# Altium integrated library Diodes - TVS.IntLib: 5379 symbols (part 21 of 122)
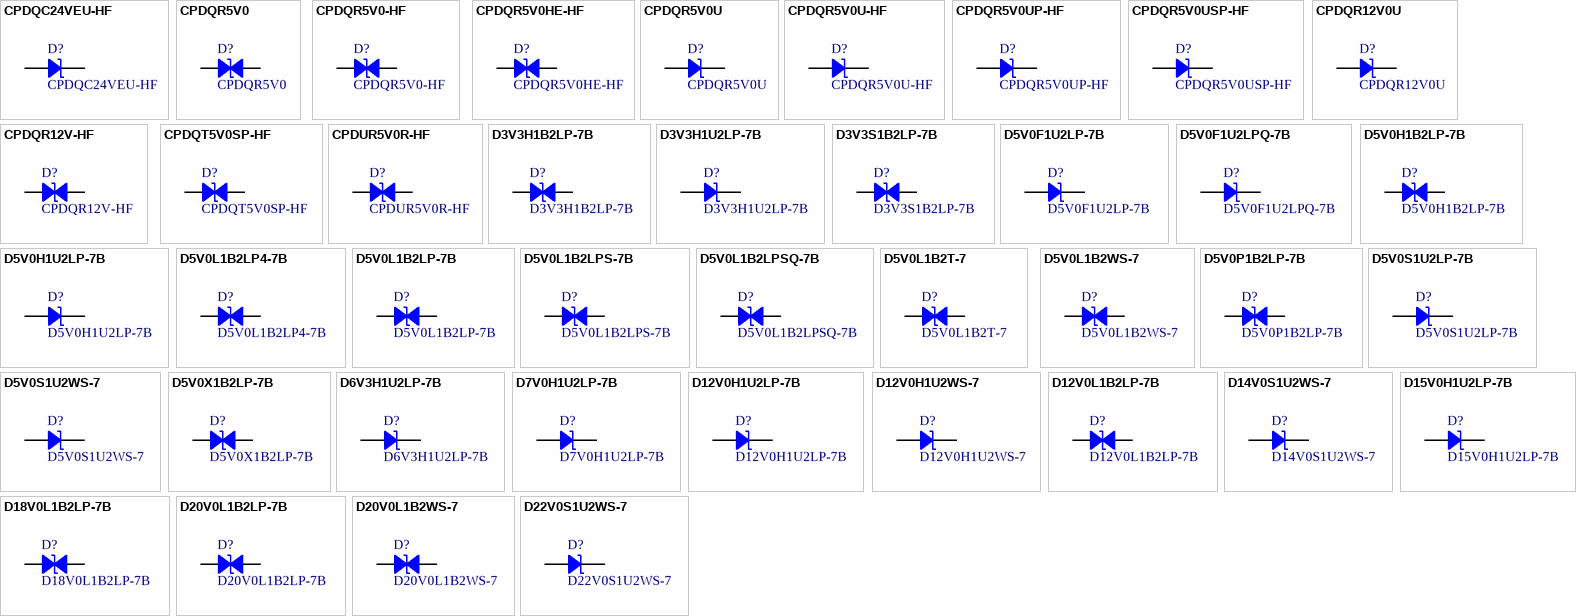
[diagram p154: symbols CPDQC24VEU-HF to D22V0S1U2WS-7]

## CPDQR5V0-HF
designator D?
TVS DIODE 5V 16V 0402/SOD923F; Manufacturer: Comchip Technology; Bidirectional Channels: 1; Capacitance @ Frequency: 15pF @ 1MHz; Current - Peak Pulse (10/1000µs): 5A (8/20µs); Power Line Protection: No; Power - Peak Pulse: 75W; Type: Zener; Voltage - Breakdown (Min): 5.1V; Part Number: CPDQR5V0-HF; Applications: General Purpose; ComponentLink1Description: Datasheet; ComponentLink1URL: http://www.comchiptech.com/admin/files/product/CPDQR5V0-HF RevG339730.pdf; ComponentLink2Description: DigiKey Link; ComponentLink2URL: http://digikey.com/product-detail/en/comchip-technology/CPDQR5V0-HF/641-2028-1-ND/9598511; Device Package: 0402 (1005 Metric); LastUpdated: 9/2/2020 1:28:49 AM; Lifecycle Status: Active; Minimum Order: 1; Mounting Type: Surface Mount; Package / Case: 0402 (1005 Metric); Packaging: TapeAndReel; PartId: 10489; Part Status: Active; Price: 0.11; Series: -; Supplier 1: DigiKey; Supplier Part Number 1: 641-2028-1-ND; Supplier Device Package: 0402/SOD-923F; Voltage - Clamping (Max) @ Ipp: 16V; Voltage - Reverse Standoff (Typ): 5V
footprint 0402
pins: 1, 2

## CPDQR5V0HE-HF
designator D?
TVS DIODE 5V 16V 0402/SOD923F; Manufacturer: Comchip Technology; Bidirectional Channels: 1; Capacitance @ Frequency: 15pF @ 1MHz; Current - Peak Pulse (10/1000µs): 8A (8/20µs); Power Line Protection: No; Power - Peak Pulse: 128W; Type: Zener; Voltage - Breakdown (Min): 5.5V; Voltage - Reverse Standoff (Typ): 5V (Max); Part Number: CPDQR5V0HE-HF; Applications: General Purpose; ComponentLink1Description: Datasheet; ComponentLink1URL: http://www.comchiptech.com/admin/files/product/CPDQR5V0HE-HF RevB812651.pdf; ComponentLink2Description: DigiKey Link; ComponentLink2URL: http://digikey.com/product-detail/en/comchip-technology/CPDQR5V0HE-HF/641-1749-1-ND/5400855; Device Package: 0402 (1006 Metric); LastUpdated: 9/2/2020 1:28:49 AM; Lifecycle Status: Active; Minimum Order: 1; Mounting Type: Surface Mount; Operating Temperature: -40°C ~ 125°C (TJ); Package / Case: 0402 (1006 Metric); Packaging: TapeAndReel; PartId: 10468; Part Status: Active; Price: 0.06; Series: -; Supplier 1: DigiKey; Supplier Part Number 1: 641-1749-1-ND; Supplier Device Package: 0402/SOD-923F; Voltage - Clamping (Max) @ Ipp: 16V
footprint 0402
pins: 1, 2

## CPDQR5V0U
designator D?
TVS DIODE 5V 12.5V 0402/SOD923F; Manufacturer: Comchip Technology; Capacitance @ Frequency: 90pF @ 1MHz; Current - Peak Pulse (10/1000µs): 16A (8/20µs); Power Line Protection: No; Power - Peak Pulse: 200W; Type: Zener; Unidirectional Channels: 1; Voltage - Breakdown (Min): 6V; Part Number: CPDQR5V0U; Applications: General Purpose; ComponentLink1Description: Datasheet; ComponentLink1URL: http://www.comchiptech.com/admin/files/product/CPDQR5V0U-HF RevF841589.pdf; ComponentLink2Description: DigiKey Link; ComponentLink2URL: http://digikey.com/product-detail/en/comchip-technology/CPDQR5V0U/641-1295-1-ND/1973574; Device Package: 0402 (1005 Metric); LastUpdated: 9/2/2020 1:28:45 AM; Lifecycle Status: Active; Minimum Order: 1; Mounting Type: Surface Mount; Package / Case: 0402 (1005 Metric); Packaging: TapeAndReel; PartId: 10403; Part Status: Active; Price: 0.11; Series: -; Supplier 1: DigiKey; Supplier Part Number 1: 641-1295-1-ND; Supplier Device Package: 0402/SOD-923F; Voltage - Clamping (Max) @ Ipp: 12.5V; Voltage - Reverse Standoff (Typ): 5V
footprint 0402
pins: 1, 2

## CPDQR5V0U-HF
designator D?
TVS DIODE 5V 12.5V 0402/SOD923F; Manufacturer: Comchip Technology; Capacitance @ Frequency: 90pF @ 1MHz; Current - Peak Pulse (10/1000µs): 16A (8/20µs); Power Line Protection: No; Power - Peak Pulse: 200W; Type: Zener; Unidirectional Channels: 1; Voltage - Breakdown (Min): 6V; Part Number: CPDQR5V0U-HF; Applications: General Purpose; ComponentLink1Description: Datasheet; ComponentLink1URL: http://www.comchiptech.com/admin/files/product/CPDQR5V0U-HF RevF841589.pdf; ComponentLink2Description: DigiKey Link; ComponentLink2URL: http://digikey.com/product-detail/en/comchip-technology/CPDQR5V0U-HF/641-2014-1-ND/9598500; Device Package: 0402 (1005 Metric); LastUpdated: 9/2/2020 1:28:45 AM; Lifecycle Status: Active; Minimum Order: 1; Mounting Type: Surface Mount; Package / Case: 0402 (1005 Metric); Packaging: TapeAndReel; PartId: 10391; Part Status: Active; Price: 0.11; Series: -; Supplier 1: DigiKey; Supplier Part Number 1: 641-2014-1-ND; Supplier Device Package: 0402/SOD-923F; Voltage - Clamping (Max) @ Ipp: 12.5V; Voltage - Reverse Standoff (Typ): 5V
footprint 0402
pins: 1, 2

## CPDQR5V0UP-HF
designator D?
TVS DIODE 5V 12.5V 0402/SOD923F; Manufacturer: Comchip Technology; Capacitance @ Frequency: 10pF @ 1MHz; Current - Peak Pulse (10/1000µs): 2A (8/20µs); Power Line Protection: No; Power - Peak Pulse: 25W; Type: Zener; Unidirectional Channels: 1; Voltage - Breakdown (Min): 6V; Voltage - Reverse Standoff (Typ): 5V (Max); Part Number: CPDQR5V0UP-HF; Applications: General Purpose; ComponentLink1Description: Datasheet; ComponentLink1URL: http://www.comchiptech.com/admin/files/product/CPDQR5V0UP-HF%20RevA692298.pdf; ComponentLink2Description: DigiKey Link; ComponentLink2URL: http://digikey.com/product-detail/en/comchip-technology/CPDQR5V0UP-HF/641-1470-1-ND/3672589; Device Package: 0402 (1005 Metric); LastUpdated: 9/2/2020 1:28:45 AM; Lifecycle Status: Active; Minimum Order: 1; Mounting Type: Surface Mount; Operating Temperature: -55°C ~ 125°C (TJ); Package / Case: 0402 (1005 Metric); Packaging: TapeAndReel; PartId: 10384; Part Status: Active; Price: 0.05; Series: -; Supplier 1: DigiKey; Supplier Part Number 1: 641-1470-1-ND; Supplier Device Package: 0402/SOD-923F; Voltage - Clamping (Max) @ Ipp: 12.5V
footprint 0402
pins: 1, 2

## CPDQR5V0USP-HF
designator D?
TVS DIODE 5V 20V 0402/SOD923F; Manufacturer: Comchip Technology; Capacitance @ Frequency: 0.6pF @ 1MHz; Current - Peak Pulse (10/1000µs): 2.5A (8/20µs); Power Line Protection: No; Power - Peak Pulse: 50W; Type: Zener; Unidirectional Channels: 1; Voltage - Breakdown (Min): 5.4V; Voltage - Reverse Standoff (Typ): 5V (Max); Part Number: CPDQR5V0USP-HF; Applications: General Purpose; ComponentLink1Description: Datasheet; ComponentLink1URL: http://www.comchiptech.com/admin/files/product/CPDQR5V0USP-HF RevB423247.pdf; ComponentLink2Description: DigiKey Link; ComponentLink2URL: http://digikey.com/product-detail/en/comchip-technology/CPDQR5V0USP-HF/641-1761-1-ND/5683894; Device Package: 0402 (1006 Metric); LastUpdated: 9/2/2020 1:28:45 AM; Lifecycle Status: Active; Minimum Order: 1; Mounting Type: Surface Mount; Operating Temperature: -55°C ~ 150°C (TJ); Package / Case: 0402 (1006 Metric); Packaging: TapeAndReel; PartId: 10377; Part Status: Active; Price: 0.06; Series: -; Supplier 1: DigiKey; Supplier Part Number 1: 641-1761-1-ND; Supplier Device Package: 0402/SOD-923F; Voltage - Clamping (Max) @ Ipp: 20V
footprint 0402
pins: 1, 2

## CPDQR12V0U
designator D?
TVS DIODE 12VWM 24VC 0402; Manufacturer: Comchip Technology; Capacitance @ Frequency: 60pF @ 1MHz; Current - Peak Pulse (10/1000µs): 5A (8/20µs); Power Line Protection: No; Power - Peak Pulse: 120W; Type: Zener; Unidirectional Channels: 1; Voltage - Breakdown (Min): 13.3V; Voltage - Clamping (Max) @ Ipp: 24V; Voltage - Reverse Standoff (Typ): 12V; Part Number: CPDQR12V0U; Applications: General Purpose; ComponentLink1Description: Datasheet; ComponentLink1URL: http://www.comchiptech.com/admin/files/product/CPDQR12V0U-HF RevB423442.pdf; ComponentLink2Description: DigiKey Link; ComponentLink2URL: http://digikey.com/product-detail/en/comchip-technology/CPDQR12V0U/641-1408-1-ND/2075772; Device Package: 0402 (1005 Metric); LastUpdated: 9/2/2020 1:28:45 AM; Lifecycle Status: Active; Minimum Order: 1; Mounting Type: Surface Mount; Package / Case: 0402 (1005 Metric); Packaging: TapeAndReel; PartId: 10374; Part Status: Active; Price: 0.07; Series: -; Supplier 1: DigiKey; Supplier Part Number 1: 641-1408-1-ND; Supplier Device Package: 0402/SOD-923F
footprint 0402
pins: 1, 2

## CPDQR12V-HF
designator D?
TVS DIODE 12V 25V 0402; Manufacturer: Comchip Technology; Bidirectional Channels: 1; Capacitance @ Frequency: 12pF @ 1MHz; Current - Peak Pulse (10/1000µs): 1A (8/20µs); Power Line Protection: No; Power - Peak Pulse: 25W; Type: Zener; Voltage - Breakdown (Min): 13V; Part Number: CPDQR12V-HF; Applications: General Purpose; ComponentLink1Description: Datasheet; ComponentLink1URL: http://www.comchiptech.com/admin/files/product/CPDQR12V-HF RevB390017.pdf; ComponentLink2Description: DigiKey Link; ComponentLink2URL: http://digikey.com/product-detail/en/comchip-technology/CPDQR12V-HF/641-2064-1-ND/10131650; Device Package: 0402 (1006 Metric); LastUpdated: 9/2/2020 1:28:49 AM; Lifecycle Status: Active; Minimum Order: 1; Mounting Type: Surface Mount; Package / Case: 0402 (1006 Metric); Packaging: TapeAndReel; PartId: 10490; Part Status: Active; Price: 0.09; Series: -; Supplier 1: DigiKey; Supplier Part Number 1: 641-2064-1-ND; Supplier Device Package: 0402 (1005 Metric); Voltage - Clamping (Max) @ Ipp: 25V; Voltage - Reverse Standoff (Typ): 12V
footprint 0402
pins: 1, 2

## CPDQT5V0SP-HF
designator D?
ESD DIODE 5VWM 12.9VC 0402 SOD-8; Manufacturer: Comchip Technology; Bidirectional Channels: 1; Capacitance @ Frequency: 0.5pF @ 1MHz; Current - Peak Pulse (10/1000µs): 1A (8/20µs); Power Line Protection: No; Type: Zener; Voltage - Breakdown (Min): 5.4V; Voltage - Clamping (Max) @ Ipp: 12.9V; Voltage - Reverse Standoff (Typ): 5V (Max); Part Number: CPDQT5V0SP-HF; Applications: General Purpose; ComponentLink1Description: Datasheet; ComponentLink1URL: http://www.comchiptech.com/admin/files/product/CPDQT5V0SP-HF%20RevC235622.pdf; ComponentLink2Description: DigiKey Link; ComponentLink2URL: http://digikey.com/product-detail/en/comchip-technology/CPDQT5V0SP-HF/641-2056-1-ND/10106907; Device Package: 0402 (1006 Metric); LastUpdated: 9/2/2020 1:28:49 AM; Lifecycle Status: Active; Minimum Order: 1; Mounting Type: Surface Mount; Operating Temperature: -55°C ~ 125°C (TJ); Package / Case: 0402 (1006 Metric); Packaging: TapeAndReel; PartId: 10477; Part Status: Active; Price: 0.08; Series: -; Supplier 1: DigiKey; Supplier Part Number 1: 641-2056-1-ND; Supplier Device Package: 0402/SOD-882
footprint 0402
pins: 1, 2

## CPDUR5V0R-HF
designator D?
TVS DIODE 5V 13V 0603/SOD523F; Manufacturer: Comchip Technology; Bidirectional Channels: 1; Capacitance @ Frequency: 20pF @ 1MHz; Current - Peak Pulse (10/1000µs): 12A (8/20µs); Power Line Protection: No; Type: Zener; Voltage - Breakdown (Min): 5.6V; Voltage - Reverse Standoff (Typ): 5V (Max); Part Number: CPDUR5V0R-HF; Applications: General Purpose; ComponentLink1Description: Datasheet; ComponentLink1URL: http://www.comchiptech.com/admin/files/product/CPDUR5V0R-HF-Rev B339379.pdf; ComponentLink2Description: DigiKey Link; ComponentLink2URL: http://digikey.com/product-detail/en/comchip-technology/CPDUR5V0R-HF/641-1526-1-ND/4835688; LastUpdated: 9/2/2020 1:28:25 AM; Lifecycle Status: Active; Minimum Order: 1; Mounting Type: Surface Mount; Operating Temperature: -40°C ~ 150°C (TJ); Package / Case: SC-79, SOD-523; Packaging: TapeAndReel; PartId: 9827; Part Status: Active; Price: 0.06; Series: -; Supplier 1: DigiKey; Supplier Part Number 1: 641-1526-1-ND; Supplier Device Package: 0603/SOD-523F; Voltage - Clamping (Max) @ Ipp: 13V
footprint SOD523F
pins: 1, 2

## D3V3H1B2LP-7B
designator D?
TVS DIODE 9.5VC 40A X1DFN1006-2; Manufacturer: Diodes Incorporated; Bidirectional Channels: 1; Capacitance @ Frequency: 100pF @ 1MHz; Current - Peak Pulse (10/1000µs): 40A (8/20µs); Power Line Protection: No; Power - Peak Pulse: 380W; Type: Zener; Voltage - Breakdown (Min): 3.8V; Voltage - Clamping (Max) @ Ipp: 9.5V; Voltage - Reverse Standoff (Typ): 3.3V (Max); Part Number: D3V3H1B2LP-7B; Applications: General Purpose; ComponentLink1Description: Datasheet; ComponentLink1URL: https://www.diodes.com/assets/Datasheets/D3V3H1B2LP.pdf; ComponentLink2Description: DigiKey Link; ComponentLink2URL: http://digikey.com/product-detail/en/diodes-incorporated/D3V3H1B2LP-7B/D3V3H1B2LP-7BDICT-ND/8545863; Device Package: 0402 (1006 Metric); LastUpdated: 9/2/2020 1:28:49 AM; Lifecycle Status: Active; Minimum Order: 1; Mounting Type: Surface Mount; Operating Temperature: -65°C ~ 150°C (TJ); Package / Case: 0402 (1006 Metric); Packaging: TapeAndReel; PartId: 10480; Part Status: Active; Price: 0.08; Series: -; Supplier 1: DigiKey; Supplier Part Number 1: D3V3H1B2LP-7BDICT-ND; Supplier Device Package: X1-DFN1006-2
footprint 0402
pins: 1, 2

## D3V3H1U2LP-7B
designator D?
TVS DIODE 3.3V 10V DFN1006-2; Manufacturer: Diodes Incorporated; Capacitance @ Frequency: 280pF @ 1MHz; Current - Peak Pulse (10/1000µs): 35A (8/20µs); Power Line Protection: No; Power - Peak Pulse: 350W; Type: Zener; Unidirectional Channels: 1; Voltage - Breakdown (Min): 4V; Voltage - Reverse Standoff (Typ): 3.3V (Max); Part Number: D3V3H1U2LP-7B; Applications: General Purpose; ComponentLink1Description: Datasheet; ComponentLink1URL: https://www.diodes.com/assets/Datasheets/D3V3H1U2LP.pdf; ComponentLink2Description: DigiKey Link; ComponentLink2URL: http://digikey.com/product-detail/en/diodes-incorporated/D3V3H1U2LP-7B/31-D3V3H1U2LP-7BCT-ND/11643297; LastUpdated: 8/30/2020 9:08:09 PM; Lifecycle Status: Active; Minimum Order: 1; Mounting Type: Surface Mount; Package / Case: 0402 (1006 Metric); Packaging: CutTape; PartId: 11495; Price: 0.38; Supplier 1: DigiKey; Supplier Part Number 1: 31-D3V3H1U2LP-7BCT-ND; Supplier Device Package: X1-DFN1006-2; Voltage - Clamping (Max) @ Ipp: 10V
footprint 0402
pins: 1, 2

## D3V3S1B2LP-7B
designator D?
GENERAL PROTECTION PP DFN1006-2; Manufacturer: Diodes Incorporated; Bidirectional Channels: 1; Capacitance @ Frequency: 118pF @ 1MHz; Current - Peak Pulse (10/1000µs): 50A (8/20µs); Power Line Protection: No; Power - Peak Pulse: 410W; Type: Zener; Voltage - Breakdown (Min): 3.8V; Voltage - Clamping (Max) @ Ipp: 9.5V; Voltage - Reverse Standoff (Typ): 3.3V (Max); Part Number: D3V3S1B2LP-7B; Applications: General Purpose; ComponentLink2Description: DigiKey Link; ComponentLink2URL: http://digikey.com/product-detail/en/diodes-incorporated/D3V3S1B2LP-7B/31-D3V3S1B2LP-7BCT-ND/10706931; Device Package: 0402 (1006 Metric); LastUpdated: 9/2/2020 1:28:48 AM; Lifecycle Status: Active; Minimum Order: 1; Mounting Type: Surface Mount; Operating Temperature: -55°C ~ 150°C (TJ); Package / Case: 0402 (1006 Metric); Packaging: Unknown; PartId: 10428; Part Status: Active; Price: 0.07; Series: -; Supplier 1: DigiKey; Supplier Part Number 1: 31-D3V3S1B2LP-7BCT-ND; Supplier Device Package: X1-DFN1006-2
footprint 0402
pins: 1, 2

## D5V0F1U2LP-7B
designator D?
TVS DIODE 5.5V 12V DFN1006-2; Manufacturer: Diodes Incorporated; Capacitance @ Frequency: 0.5pF @ 1MHz; Current - Peak Pulse (10/1000µs): 1.5A (8/20µs); Power Line Protection: No; Type: Zener; Unidirectional Channels: 1; Voltage - Breakdown (Min): 6V; Voltage - Reverse Standoff (Typ): 5.5V (Max); Part Number: D5V0F1U2LP-7B; Applications: Automotive, HDMI; ComponentLink1Description: Datasheet; ComponentLink1URL: https://www.diodes.com/assets/Datasheets/D5V0F1U2LP.pdf; ComponentLink2Description: DigiKey Link; ComponentLink2URL: http://digikey.com/product-detail/en/diodes-incorporated/D5V0F1U2LP-7B/D5V0F1U2LP-7BDICT-ND/4868984; Device Package: 0402 (1006 Metric); LastUpdated: 9/2/2020 1:28:45 AM; Lifecycle Status: Active; Minimum Order: 1; Mounting Type: Surface Mount; Operating Temperature: -65°C ~ 150°C (TJ); Package / Case: 0402 (1006 Metric); Packaging: TapeAndReel; PartId: 10398; Part Status: Active; Price: 0.08; Series: Automotive, AEC-Q101; Supplier 1: DigiKey; Supplier Part Number 1: D5V0F1U2LP-7BDICT-ND; Supplier Device Package: X1-DFN1006-2; Voltage - Clamping (Max) @ Ipp: 12V
footprint 0402
pins: 1, 2

## D5V0F1U2LPQ-7B
designator D?
DATALINE PROTECT PP X1-DFN1006-2; Manufacturer: Diodes Incorporated; Capacitance @ Frequency: 0.5pF @ 1MHz; Current - Peak Pulse (10/1000µs): 1.5A (8/20µs); Power Line Protection: No; Type: 0402 (1006 Metric); Unidirectional Channels: 1; Voltage - Breakdown (Min): 6V; Voltage - Clamping (Max) @ Ipp: 12V; Voltage - Reverse Standoff (Typ): 5.5V (Max); Part Number: D5V0F1U2LPQ-7B; Applications: Automotive; ComponentLink1Description: Datasheet; ComponentLink1URL: https://www.diodes.com/assets/Datasheets/D5V0F1U2LPQ.pdf; ComponentLink2Description: DigiKey Link; ComponentLink2URL: http://digikey.com/product-detail/en/diodes-incorporated/D5V0F1U2LPQ-7B/31-D5V0F1U2LPQ-7BCT-ND/10674222; Device Package: 0402 (1006 Metric); LastUpdated: 9/2/2020 1:28:45 AM; Lifecycle Status: Active; Minimum Order: 1; Mounting Type: Surface Mount; Operating Temperature: -65°C ~ 150°C (TJ); Package / Case: 0402 (1006 Metric); Packaging: TapeAndReel; PartId: 10364; Part Status: -65°C ~ 150°C (TJ); Price: 0.03; Series: Automotive, AEC-Q101; Supplier 1: DigiKey; Supplier Part Number 1: 31-D5V0F1U2LPQ-7BCT-ND; Supplier Device Package: X1-DFN1006-2
footprint 0402
pins: 1, 2

## D5V0H1B2LP-7B
designator D?
TVS DIODE 5.5V 12.5V DFN1006-2; Manufacturer: Diodes Incorporated; Bidirectional Channels: 1; Capacitance @ Frequency: 85pF @ 1MHz; Current - Peak Pulse (10/1000µs): 30A (8/20µs); Power Line Protection: No; Power - Peak Pulse: 375W; Type: Zener; Voltage - Breakdown (Min): 6V; Voltage - Reverse Standoff (Typ): 5.5V (Max); Part Number: D5V0H1B2LP-7B; Applications: General Purpose; ComponentLink1Description: Datasheet; ComponentLink1URL: https://www.diodes.com/assets/Datasheets/D5V0H1B2LP.pdf; ComponentLink2Description: DigiKey Link; ComponentLink2URL: http://digikey.com/product-detail/en/diodes-incorporated/D5V0H1B2LP-7B/D5V0H1B2LP-7BDICT-ND/7708829; Device Package: 0402 (1006 Metric); LastUpdated: 9/2/2020 1:28:48 AM; Lifecycle Status: Active; Minimum Order: 1; Mounting Type: Surface Mount; Operating Temperature: -65°C ~ 150°C (TJ); Package / Case: 0402 (1006 Metric); Packaging: TapeAndReel; PartId: 10418; Part Status: Active; Price: 0.03; Series: -; Supplier 1: DigiKey; Supplier Part Number 1: D5V0H1B2LP-7BDICT-ND; Supplier Device Package: X1-DFN1006-2; Voltage - Clamping (Max) @ Ipp: 12.5V
footprint 0402
pins: 1, 2

## D5V0H1U2LP-7B
designator D?
TVS DIODE 14VC 30A X1DFN1006-2; Manufacturer: Diodes Incorporated; Capacitance @ Frequency: 190pF @ 1MHz; Current - Peak Pulse (10/1000µs): 30A (8/20µs); Power Line Protection: No; Power - Peak Pulse: 420W; Type: Zener; Unidirectional Channels: 1; Voltage - Breakdown (Min): 6.2V; Voltage - Clamping (Max) @ Ipp: 14V; Voltage - Reverse Standoff (Typ): 5.5V (Max); Part Number: D5V0H1U2LP-7B; Applications: General Purpose; ComponentLink1Description: Datasheet; ComponentLink1URL: https://www.diodes.com/assets/Datasheets/D5V0H1U2LP.pdf; ComponentLink2Description: DigiKey Link; ComponentLink2URL: http://digikey.com/product-detail/en/diodes-incorporated/D5V0H1U2LP-7B/D5V0H1U2LP-7BDICT-ND/8545865; Device Package: 0402 (1006 Metric); LastUpdated: 9/2/2020 1:28:45 AM; Lifecycle Status: Active; Minimum Order: 1; Mounting Type: Surface Mount; Operating Temperature: -65°C ~ 150°C (TJ); Package / Case: 0402 (1006 Metric); Packaging: CutTape; PartId: 10392; Part Status: Active; Price: 0.48; Series: -; Supplier 1: DigiKey; Supplier Part Number 1: D5V0H1U2LP-7BDICT-ND; Supplier Device Package: X1-DFN1006-2
footprint 0402
pins: 1, 2

## D5V0L1B2LP4-7B
designator D?
TVS DIODE 5V 14V DFN1006-2; Manufacturer: Diodes Incorporated; Bidirectional Channels: 1; Capacitance @ Frequency: 15pF @ 1MHz; Current - Peak Pulse (10/1000µs): 6A (8/20µs); Power Line Protection: No; Power - Peak Pulse: 84W; Type: Zener; Voltage - Breakdown (Min): 6V; Voltage - Reverse Standoff (Typ): 5V (Max); Part Number: D5V0L1B2LP4-7B; Applications: General Purpose; ComponentLink1Description: Datasheet; ComponentLink1URL: https://www.diodes.com/assets/Datasheets/D5V0L1B2LP4.pdf; ComponentLink2Description: DigiKey Link; ComponentLink2URL: http://digikey.com/product-detail/en/diodes-incorporated/D5V0L1B2LP4-7B/D5V0L1B2LP4-7BDICT-ND/2918792; Device Package: 0402 (1006 Metric); LastUpdated: 9/2/2020 1:28:49 AM; Lifecycle Status: Active; Minimum Order: 1; Mounting Type: Surface Mount; Operating Temperature: -65°C ~ 150°C (TJ); Package / Case: 0402 (1006 Metric); Packaging: TapeAndReel; PartId: 10498; Part Status: Active; Price: 0.04; Series: -; Supplier 1: DigiKey; Supplier Part Number 1: D5V0L1B2LP4-7BDICT-ND; Supplier Device Package: X2-DFN1006-2; Voltage - Clamping (Max) @ Ipp: 14V
footprint 0402
pins: 1, 2

## D5V0L1B2LP-7B
designator D?
TVS DIODE 5V 14V DFN1006-2; Manufacturer: Diodes Incorporated; Bidirectional Channels: 1; Capacitance @ Frequency: 15pF @ 1MHz; Current - Peak Pulse (10/1000µs): 6A (8/20µs); Power Line Protection: No; Power - Peak Pulse: 84W; Type: Zener; Voltage - Breakdown (Min): 6V; Voltage - Reverse Standoff (Typ): 5V (Max); Part Number: D5V0L1B2LP-7B; Applications: General Purpose; ComponentLink1Description: Datasheet; ComponentLink1URL: https://www.diodes.com/assets/Datasheets/D5V0L1B2LP.pdf; ComponentLink2Description: DigiKey Link; ComponentLink2URL: http://digikey.com/product-detail/en/diodes-incorporated/D5V0L1B2LP-7B/D5V0L1B2LP-7BDICT-ND/2918807; Device Package: 0402 (1006 Metric); LastUpdated: 9/2/2020 1:28:49 AM; Lifecycle Status: Active; Minimum Order: 1; Mounting Type: Surface Mount; Operating Temperature: -65°C ~ 150°C (TJ); Package / Case: 0402 (1006 Metric); Packaging: TapeAndReel; PartId: 10500; Part Status: Active; Price: 0.04; Series: -; Supplier 1: DigiKey; Supplier Part Number 1: D5V0L1B2LP-7BDICT-ND; Supplier Device Package: X2-DFN1006-2; Voltage - Clamping (Max) @ Ipp: 14V
footprint 0402
pins: 1, 2

## D5V0L1B2LPS-7B
designator D?
TVS DIODE 5V 14V DFN1006-2; Manufacturer: Diodes Incorporated; Bidirectional Channels: 1; Capacitance @ Frequency: 15pF @ 1MHz; Current - Peak Pulse (10/1000µs): 6A (8/20µs); Power Line Protection: No; Power - Peak Pulse: 84W; Type: Zener; Voltage - Breakdown (Min): 6V; Voltage - Reverse Standoff (Typ): 5V (Max); Part Number: D5V0L1B2LPS-7B; Applications: Automotive; ComponentLink1Description: Datasheet; ComponentLink1URL: https://www.diodes.com/assets/Datasheets/D5V0L1B2LPS.pdf; ComponentLink2Description: DigiKey Link; ComponentLink2URL: http://digikey.com/product-detail/en/diodes-incorporated/D5V0L1B2LPS-7B/D5V0L1B2LPS-7BDICT-ND/4810987; Device Package: 0402 (1006 Metric); LastUpdated: 9/2/2020 1:28:48 AM; Lifecycle Status: Active; Minimum Order: 1; Mounting Type: Surface Mount; Operating Temperature: -65°C ~ 150°C (TJ); Package / Case: 0402 (1006 Metric); Packaging: TapeAndReel; PartId: 10434; Part Status: Active; Price: 0.08; Series: Automotive, AEC-Q101; Supplier 1: DigiKey; Supplier Part Number 1: D5V0L1B2LPS-7BDICT-ND; Supplier Device Package: U-DFN1006-2/SWP; Voltage - Clamping (Max) @ Ipp: 14V
footprint 0402
pins: 1, 2

## D5V0L1B2LPSQ-7B
designator D?
TVS DIODE 5V 14V 2DFN; Manufacturer: Diodes Incorporated; Bidirectional Channels: 1; Capacitance @ Frequency: 15pF @ 1MHz; Current - Peak Pulse (10/1000µs): 6A (8/20µs); Power Line Protection: No; Power - Peak Pulse: 84W; Type: Zener; Voltage - Breakdown (Min): 6V; Voltage - Reverse Standoff (Typ): 5V (Max); Part Number: D5V0L1B2LPSQ-7B; Applications: Automotive; ComponentLink1Description: Datasheet; ComponentLink1URL: https://www.diodes.com/assets/Datasheets/D5V0L1B2LPS.pdf; ComponentLink2Description: DigiKey Link; ComponentLink2URL: http://digikey.com/product-detail/en/diodes-incorporated/D5V0L1B2LPSQ-7B/D5V0L1B2LPSQ-7BDICT-ND/5033764; Device Package: 0402 (1006 Metric); LastUpdated: 9/2/2020 1:28:48 AM; Lifecycle Status: Active; Minimum Order: 1; Mounting Type: Surface Mount; Operating Temperature: -65°C ~ 150°C (TJ); Package / Case: 0402 (1006 Metric); Packaging: TapeAndReel; PartId: 10433; Part Status: Active; Price: 0.08; Series: Automotive, AEC-Q101; Supplier 1: DigiKey; Supplier Part Number 1: D5V0L1B2LPSQ-7BDICT-ND; Supplier Device Package: U-DFN1006-2/SWP; Voltage - Clamping (Max) @ Ipp: 14V
footprint 0402
pins: 1, 2

## D5V0L1B2T-7
designator D?
TVS DIODE 5V 14V SOD523; Manufacturer: Diodes Incorporated; Bidirectional Channels: 1; Capacitance @ Frequency: 15pF @ 1MHz; Current - Peak Pulse (10/1000µs): 6A (8/20µs); Power Line Protection: No; Power - Peak Pulse: 84W; Type: Zener; Voltage - Breakdown (Min): 6V; Voltage - Reverse Standoff (Typ): 5V (Max); Part Number: D5V0L1B2T-7; Applications: General Purpose; ComponentLink1Description: Datasheet; ComponentLink1URL: https://www.diodes.com/assets/Datasheets/D5V0L1B2T.pdf; ComponentLink2Description: DigiKey Link; ComponentLink2URL: http://digikey.com/product-detail/en/diodes-incorporated/D5V0L1B2T-7/D5V0L1B2T-7DICT-ND/2918796; LastUpdated: 9/2/2020 1:28:25 AM; Lifecycle Status: Active; Minimum Order: 1; Mounting Type: Surface Mount; Operating Temperature: -65°C ~ 150°C (TJ); Package / Case: SC-79, SOD-523; Packaging: TapeAndReel; PartId: 9828; Part Status: Active; Price: 0.05; Series: -; Supplier 1: DigiKey; Supplier Part Number 1: D5V0L1B2T-7DICT-ND; Supplier Device Package: SOD-523; Voltage - Clamping (Max) @ Ipp: 14V
footprint SOD523F
pins: 1, 2

## D5V0L1B2WS-7
designator D?
TVS DIODE 5V 14V SOD323; Manufacturer: Diodes Incorporated; Bidirectional Channels: 1; Capacitance @ Frequency: 15pF @ 1MHz; Current - Peak Pulse (10/1000µs): 6A (8/20µs); Power Line Protection: No; Power - Peak Pulse: 84W; Type: Zener; Voltage - Breakdown (Min): 6V; Voltage - Reverse Standoff (Typ): 5V (Max); Part Number: D5V0L1B2WS-7; Applications: General Purpose; ComponentLink1Description: Datasheet; ComponentLink1URL: https://www.diodes.com/assets/Datasheets/D5V0L1B2WS.pdf; ComponentLink2Description: DigiKey Link; ComponentLink2URL: http://digikey.com/product-detail/en/diodes-incorporated/D5V0L1B2WS-7/D5V0L1B2WS-7DICT-ND/2918802; LastUpdated: 9/2/2020 1:28:29 AM; Lifecycle Status: Active; Minimum Order: 1; Mounting Type: Surface Mount; Operating Temperature: -65°C ~ 150°C (TJ); Package / Case: SC-76, SOD-323; Packaging: TapeAndReel; PartId: 9939; Part Status: Active; Price: 0.05; Series: -; Supplier 1: DigiKey; Supplier Part Number 1: D5V0L1B2WS-7DICT-ND; Supplier Device Package: SOD-323; Voltage - Clamping (Max) @ Ipp: 14V
footprint SOD323
pins: 1, 2

## D5V0P1B2LP-7B
designator D?
TVS DIODE 5.5V 13V DFN1006-2; Manufacturer: Diodes Incorporated; Bidirectional Channels: 1; Capacitance @ Frequency: 8pF @ 1MHz; Current - Peak Pulse (10/1000µs): 4A (8/20µs); Power Line Protection: No; Type: Zener; Voltage - Breakdown (Min): 6V; Voltage - Reverse Standoff (Typ): 5.5V (Max); Part Number: D5V0P1B2LP-7B; Applications: General Purpose; ComponentLink1Description: Datasheet; ComponentLink1URL: https://www.diodes.com/assets/Datasheets/D5V0P1B2LP.pdf; ComponentLink2Description: DigiKey Link; ComponentLink2URL: http://digikey.com/product-detail/en/diodes-incorporated/D5V0P1B2LP-7B/D5V0P1B2LP-7BDICT-ND/4967047; Device Package: 0402 (1006 Metric); LastUpdated: 9/2/2020 1:28:49 AM; Lifecycle Status: Active; Minimum Order: 1; Mounting Type: Surface Mount; Operating Temperature: -65°C ~ 150°C (TJ); Package / Case: 0402 (1006 Metric); Packaging: TapeAndReel; PartId: 10503; Part Status: Active; Price: 0.03; Series: -; Supplier 1: DigiKey; Supplier Part Number 1: D5V0P1B2LP-7BDICT-ND; Supplier Device Package: X1-DFN1006-2; Voltage - Clamping (Max) @ Ipp: 13V
footprint 0402
pins: 1, 2

## D5V0S1U2LP-7B
designator D?
TRANSIENT VOLTAGE SUPPRESSOR PP; Manufacturer: Diodes Incorporated; Capacitance @ Frequency: 210pF @ 1MHz; Current - Peak Pulse (10/1000µs): 40A; Power Line Protection: No; Power - Peak Pulse: 500W; Type: Zener; Unidirectional Channels: 1; Voltage - Breakdown (Min): 6.2V; Voltage - Clamping (Max) @ Ipp: 13V; Voltage - Reverse Standoff (Typ): 5.5V (Max); Part Number: D5V0S1U2LP-7B; Applications: Automotive, HDMI, USB; ComponentLink2Description: DigiKey Link; ComponentLink2URL: http://digikey.com/product-detail/en/diodes-incorporated/D5V0S1U2LP-7B/31-D5V0S1U2LP-7BCT-ND/11643330; LastUpdated: 8/30/2020 9:08:09 PM; Lifecycle Status: Active; Minimum Order: 1; Mounting Type: Surface Mount; Operating Temperature: -65°C ~ 150°C (TJ); Package / Case: 0402 (1006 Metric); Packaging: CutTape; PartId: 11496; Price: 0.28; Series: Automotive, AEC-Q101; Supplier 1: DigiKey; Supplier Part Number 1: 31-D5V0S1U2LP-7BCT-ND; Supplier Device Package: X1-DFN1006-2
footprint 0402
pins: 1, 2

## D5V0S1U2WS-7
designator D?
TVS DIODE 5.5V 16V SOD323; Manufacturer: Diodes Incorporated; Capacitance @ Frequency: 950pF @ 1MHz; Current - Peak Pulse (10/1000µs): 70A (8/20µs); Power Line Protection: No; Power - Peak Pulse: 1000W (1kW); Type: Zener; Unidirectional Channels: 1; Voltage - Breakdown (Min): 6.2V; Voltage - Reverse Standoff (Typ): 5.5V (Max); Part Number: D5V0S1U2WS-7; Applications: Automotive; ComponentLink1Description: Datasheet; ComponentLink1URL: https://www.diodes.com/assets/Datasheets/D5V0S1U2WS.pdf; ComponentLink2Description: DigiKey Link; ComponentLink2URL: http://digikey.com/product-detail/en/diodes-incorporated/D5V0S1U2WS-7/31-D5V0S1U2WS-7CT-ND/11643340; LastUpdated: 8/30/2020 9:07:50 PM; Lifecycle Status: Active; Minimum Order: 1; Mounting Type: Surface Mount; Package / Case: SC-76, SOD-323; Packaging: CutTape; PartId: 11491; Price: 0.37; Series: Automotive, AEC-Q101; Supplier 1: DigiKey; Supplier Part Number 1: 31-D5V0S1U2WS-7CT-ND; Supplier Device Package: SOD-323; Voltage - Clamping (Max) @ Ipp: 16V
footprint SOD323
pins: 1, 2

## D5V0X1B2LP-7B
designator D?
TVS DIODE 5.5V 14V DFN1006-2; Manufacturer: Diodes Incorporated; Bidirectional Channels: 1; Capacitance @ Frequency: 0.3pF @ 1MHz; Current - Peak Pulse (10/1000µs): 1.5A (8/20µs); Power Line Protection: No; Type: Zener; Voltage - Breakdown (Min): 7V; Voltage - Reverse Standoff (Typ): 5.5V (Max); Part Number: D5V0X1B2LP-7B; Applications: General Purpose; ComponentLink1Description: Datasheet; ComponentLink1URL: https://www.diodes.com/assets/Datasheets/D5V0X1B2LP.pdf; ComponentLink2Description: DigiKey Link; ComponentLink2URL: http://digikey.com/product-detail/en/diodes-incorporated/D5V0X1B2LP-7B/D5V0X1B2LP-7BDICT-ND/4868993; Device Package: 0402 (1006 Metric); LastUpdated: 9/2/2020 1:28:49 AM; Lifecycle Status: Active; Minimum Order: 1; Mounting Type: Surface Mount; Operating Temperature: -65°C ~ 150°C (TJ); Package / Case: 0402 (1006 Metric); Packaging: TapeAndReel; PartId: 10492; Part Status: Active; Price: 0.07; Series: -; Supplier 1: DigiKey; Supplier Part Number 1: D5V0X1B2LP-7BDICT-ND; Supplier Device Package: X1-DFN1006-2; Voltage - Clamping (Max) @ Ipp: 14V
footprint 0402
pins: 1, 2

## D6V3H1U2LP-7B
designator D?
TVS DIODE 6.3V 12.5V DFN1006-2; Manufacturer: Diodes Incorporated; Capacitance @ Frequency: 200pF @ 1MHz; Current - Peak Pulse (10/1000µs): 30A (8/20µs); Power Line Protection: No; Power - Peak Pulse: 375W; Type: Zener; Unidirectional Channels: 1; Voltage - Breakdown (Min): 6.5V; Voltage - Reverse Standoff (Typ): 6.3V (Max); Part Number: D6V3H1U2LP-7B; Applications: General Purpose; ComponentLink1Description: Datasheet; ComponentLink1URL: https://www.diodes.com/assets/Datasheets/D6V3H1U2LP.pdf; ComponentLink2Description: DigiKey Link; ComponentLink2URL: http://digikey.com/product-detail/en/diodes-incorporated/D6V3H1U2LP-7B/D6V3H1U2LP-7BDICT-ND/7916705; Device Package: 0402 (1006 Metric); LastUpdated: 9/2/2020 1:28:45 AM; Lifecycle Status: Active; Minimum Order: 1; Mounting Type: Surface Mount; Operating Temperature: -65°C ~ 150°C (TJ); Package / Case: 0402 (1006 Metric); Packaging: TapeAndReel; PartId: 10396; Part Status: Active; Price: 0.04; Series: -; Supplier 1: DigiKey; Supplier Part Number 1: D6V3H1U2LP-7BDICT-ND; Supplier Device Package: X1-DFN1006-2; Voltage - Clamping (Max) @ Ipp: 12.5V
footprint 0402
pins: 1, 2

## D7V0H1U2LP-7B
designator D?
TRANSIENT VOLTAGE SUPPRESSOR PP; Manufacturer: Diodes Incorporated; Capacitance @ Frequency: 150pF @ 1MHz; Current - Peak Pulse (10/1000µs): 24A; Power Line Protection: No; Power - Peak Pulse: 270W; Type: Zener; Unidirectional Channels: 1; Voltage - Breakdown (Min): 7.5V; Voltage - Clamping (Max) @ Ipp: 14.4V; Voltage - Reverse Standoff (Typ): 7V (Max); Part Number: D7V0H1U2LP-7B; Applications: General Purpose; ComponentLink1Description: Datasheet; ComponentLink1URL: https://www.diodes.com/assets/Datasheets/D7V0H1U2LP.pdf; ComponentLink2Description: DigiKey Link; ComponentLink2URL: http://digikey.com/product-detail/en/diodes-incorporated/D7V0H1U2LP-7B/31-D7V0H1U2LP-7BCT-ND/10706920; Device Package: 0402 (1006 Metric); LastUpdated: 9/2/2020 1:28:45 AM; Lifecycle Status: Active; Minimum Order: 1; Mounting Type: Surface Mount; Operating Temperature: -65°C ~ 150°C (TJ); Package / Case: 0402 (1006 Metric); Packaging: TapeAndReel; PartId: 10365; Part Status: Active; Price: 0.05; Series: -; Supplier 1: DigiKey; Supplier Part Number 1: 31-D7V0H1U2LP-7BCT-ND; Supplier Device Package: X1-DFN1006-2
footprint 0402
pins: 1, 2

## D12V0H1U2LP-7B
designator D?
TVS DIODE 12V 23V DFN1006-2; Manufacturer: Diodes Incorporated; Capacitance @ Frequency: 80pF @ 1MHz; Current - Peak Pulse (10/1000µs): 13A (8/20µs); Power Line Protection: No; Power - Peak Pulse: 300W; Type: Zener; Unidirectional Channels: 1; Voltage - Breakdown (Min): 13.3V; Voltage - Reverse Standoff (Typ): 12V (Max); Part Number: D12V0H1U2LP-7B; Applications: General Purpose; ComponentLink1Description: Datasheet; ComponentLink1URL: https://www.diodes.com/assets/Datasheets/D12V0H1U2LP.pdf; ComponentLink2Description: DigiKey Link; ComponentLink2URL: http://digikey.com/product-detail/en/diodes-incorporated/D12V0H1U2LP-7B/D12V0H1U2LP-7BDICT-ND/4868975; Device Package: 0402 (1006 Metric); LastUpdated: 9/2/2020 1:28:45 AM; Lifecycle Status: Active; Minimum Order: 1; Mounting Type: Surface Mount; Operating Temperature: -65°C ~ 150°C (TJ); Package / Case: 0402 (1006 Metric); Packaging: TapeAndReel; PartId: 10399; Part Status: Active; Price: 0.08; Series: -; Supplier 1: DigiKey; Supplier Part Number 1: D12V0H1U2LP-7BDICT-ND; Supplier Device Package: X1-DFN1006-2; Voltage - Clamping (Max) @ Ipp: 23V
footprint 0402
pins: 1, 2

## D12V0H1U2WS-7
designator D?
TVS DIODE 12V 24V SOD323; Manufacturer: Diodes Incorporated; Capacitance @ Frequency: 180pF @ 1MHz; Current - Peak Pulse (10/1000µs): 25A (8/20µs); Power Line Protection: No; Power - Peak Pulse: 600W; Type: Zener; Unidirectional Channels: 1; Voltage - Breakdown (Min): 13.3V; Voltage - Reverse Standoff (Typ): 12V (Max); Part Number: D12V0H1U2WS-7; Applications: Automotive; ComponentLink1Description: Datasheet; ComponentLink1URL: https://www.diodes.com/assets/Datasheets/D12V0H1U2WS.pdf; ComponentLink2Description: DigiKey Link; ComponentLink2URL: http://digikey.com/product-detail/en/diodes-incorporated/D12V0H1U2WS-7/D12V0H1U2WS-7DICT-ND/4747620; LastUpdated: 9/2/2020 1:28:27 AM; Lifecycle Status: Active; Minimum Order: 1; Mounting Type: Surface Mount; Operating Temperature: -55°C ~ 125°C (TJ); Package / Case: SC-76, SOD-323; Packaging: TapeAndReel; PartId: 9863; Part Status: Active; Price: 0.09; Series: Automotive, AEC-Q101; Supplier 1: DigiKey; Supplier Part Number 1: D12V0H1U2WS-7DICT-ND; Supplier Device Package: SOD-323; Voltage - Clamping (Max) @ Ipp: 24V
footprint SOD323
pins: 1, 2

## D12V0L1B2LP-7B
designator D?
TVS DIODE 12V 25V DFN1006-2; Manufacturer: Diodes Incorporated; Bidirectional Channels: 1; Capacitance @ Frequency: 10pF @ 1MHz; Current - Peak Pulse (10/1000µs): 4A (8/20µs); Power Line Protection: No; Power - Peak Pulse: 100W; Type: Zener; Voltage - Breakdown (Min): 13V; Voltage - Reverse Standoff (Typ): 12V (Max); Part Number: D12V0L1B2LP-7B; Applications: Automotive; ComponentLink1Description: Datasheet; ComponentLink1URL: https://www.diodes.com/assets/Datasheets/D12V0L1B2LP.pdf; ComponentLink2Description: DigiKey Link; ComponentLink2URL: http://digikey.com/product-detail/en/diodes-incorporated/D12V0L1B2LP-7B/D12V0L1B2LP-7BDICT-ND/5033765; Device Package: 0402 (1006 Metric); LastUpdated: 9/2/2020 1:28:48 AM; Lifecycle Status: Active; Minimum Order: 1; Mounting Type: Surface Mount; Operating Temperature: -65°C ~ 150°C (TJ); Package / Case: 0402 (1006 Metric); Packaging: TapeAndReel; PartId: 10422; Part Status: Active; Price: 0.04; Series: Automotive, AEC-Q101; Supplier 1: DigiKey; Supplier Part Number 1: D12V0L1B2LP-7BDICT-ND; Supplier Device Package: X1-DFN1006-2; Voltage - Clamping (Max) @ Ipp: 25V
footprint 0402
pins: 1, 2

## D14V0S1U2WS-7
designator D?
TVS DIODE 14V 26V SOD323; Manufacturer: Diodes Incorporated; Capacitance @ Frequency: 360pF @ 1MHz; Current - Peak Pulse (10/1000µs): 50A (8/20µs); Power Line Protection: No; Power - Peak Pulse: 1300W (1.3kW); Type: Zener; Unidirectional Channels: 1; Voltage - Breakdown (Min): 14.5V; Voltage - Reverse Standoff (Typ): 14V (Max); Part Number: D14V0S1U2WS-7; Applications: General Purpose; ComponentLink1Description: Datasheet; ComponentLink1URL: https://www.diodes.com/assets/Datasheets/D14V0S1U2WS.pdf; ComponentLink2Description: DigiKey Link; ComponentLink2URL: http://digikey.com/product-detail/en/diodes-incorporated/D14V0S1U2WS-7/D14V0S1U2WS-7DICT-ND/5699720; LastUpdated: 9/2/2020 1:28:27 AM; Lifecycle Status: Active; Minimum Order: 1; Mounting Type: Surface Mount; Operating Temperature: -55°C ~ 125°C (TJ); Package / Case: SC-76, SOD-323; Packaging: CutTape; PartId: 9887; Part Status: Active; Price: 0.48; Series: -; Supplier 1: DigiKey; Supplier Part Number 1: D14V0S1U2WS-7DICT-ND; Supplier Device Package: SOD-323; Voltage - Clamping (Max) @ Ipp: 26V
footprint SOD323
pins: 1, 2

## D15V0H1U2LP-7B
designator D?
TVS PP X1-DFN1006-2; Manufacturer: Diodes Incorporated; Capacitance @ Frequency: 70pF @ 1MHz; Current - Peak Pulse (10/1000µs): 12A (8/20µs); Power Line Protection: No; Power - Peak Pulse: 300W; Type: Zener; Unidirectional Channels: 1; Voltage - Breakdown (Min): 16V; Voltage - Clamping (Max) @ Ipp: 27V; Voltage - Reverse Standoff (Typ): 15V (Max); Part Number: D15V0H1U2LP-7B; Applications: General Purpose; ComponentLink1Description: Datasheet; ComponentLink1URL: https://www.diodes.com/assets/Datasheets/D15V0H1U2LP.pdf; ComponentLink2Description: DigiKey Link; ComponentLink2URL: http://digikey.com/product-detail/en/diodes-incorporated/D15V0H1U2LP-7B/D15V0H1U2LP-7BDICT-ND/9089787; Device Package: 0402 (1006 Metric); LastUpdated: 9/2/2020 1:28:45 AM; Lifecycle Status: Active; Minimum Order: 1; Mounting Type: Surface Mount; Operating Temperature: -65°C ~ 150°C (TJ); Package / Case: 0402 (1006 Metric); Packaging: TapeAndReel; PartId: 10395; Part Status: Active; Price: 0.05; Series: -; Supplier 1: DigiKey; Supplier Part Number 1: D15V0H1U2LP-7BDICT-ND; Supplier Device Package: X1-DFN1006-2
footprint 0402
pins: 1, 2

## D18V0L1B2LP-7B
designator D?
TVS DIODE 18V 34V DFN1006-2; Manufacturer: Diodes Incorporated; Bidirectional Channels: 1; Capacitance @ Frequency: 7pF @ 1MHz; Current - Peak Pulse (10/1000µs): 2A (8/20µs); Power Line Protection: No; Power - Peak Pulse: 68W; Type: Zener; Voltage - Breakdown (Min): 21V; Voltage - Reverse Standoff (Typ): 18V (Max); Part Number: D18V0L1B2LP-7B; Applications: Automotive; ComponentLink1Description: Datasheet; ComponentLink1URL: https://www.diodes.com/assets/Datasheets/D18V0L1B2LP.pdf; ComponentLink2Description: DigiKey Link; ComponentLink2URL: http://digikey.com/product-detail/en/diodes-incorporated/D18V0L1B2LP-7B/31-D18V0L1B2LP-7BCT-ND/11643358; LastUpdated: 8/30/2020 9:08:11 PM; Lifecycle Status: Active; Minimum Order: 1; Mounting Type: Surface Mount; Package / Case: 0402 (1006 Metric); Packaging: CutTape; PartId: 11463; Price: 0.37; Series: Automotive, AEC-Q101; Supplier 1: DigiKey; Supplier Part Number 1: 31-D18V0L1B2LP-7BCT-ND; Supplier Device Package: X1-DFN1006-2; Voltage - Clamping (Max) @ Ipp: 34V
footprint 0402
pins: 1, 2

## D20V0L1B2LP-7B
designator D?
TVS DIODE 20V 34V DFN1006-2; Manufacturer: Diodes Incorporated; Bidirectional Channels: 1; Capacitance @ Frequency: 7pF @ 1MHz; Current - Peak Pulse (10/1000µs): 2A (8/20µs); Power Line Protection: No; Power - Peak Pulse: 68W; Type: Zener; Voltage - Breakdown (Min): 21V; Voltage - Reverse Standoff (Typ): 20V (Max); Part Number: D20V0L1B2LP-7B; Applications: Automotive; ComponentLink1Description: Datasheet; ComponentLink1URL: https://www.diodes.com/assets/Datasheets/D20V0L1B2LP.pdf; ComponentLink2Description: DigiKey Link; ComponentLink2URL: http://digikey.com/product-detail/en/diodes-incorporated/D20V0L1B2LP-7B/D20V0L1B2LP-7BDICT-ND/6052571; Device Package: 0402 (1006 Metric); LastUpdated: 9/2/2020 1:28:49 AM; Lifecycle Status: Active; Minimum Order: 1; Mounting Type: Surface Mount; Operating Temperature: -65°C ~ 150°C (TJ); Package / Case: 0402 (1006 Metric); Packaging: TapeAndReel; PartId: 10452; Part Status: Active; Price: 0.03; Series: Automotive, AEC-Q101; Supplier 1: DigiKey; Supplier Part Number 1: D20V0L1B2LP-7BDICT-ND; Supplier Device Package: X1-DFN1006-2; Voltage - Clamping (Max) @ Ipp: 34V
footprint 0402
pins: 1, 2

## D20V0L1B2WS-7
designator D?
TVS DIODE 20V 30V SOD323; Manufacturer: Diodes Incorporated; Bidirectional Channels: 1; Capacitance @ Frequency: 10pF @ 1MHz; Current - Peak Pulse (10/1000µs): 3A (8/20µs); Power Line Protection: No; Power - Peak Pulse: 90W; Type: Zener; Voltage - Breakdown (Min): 21V; Voltage - Reverse Standoff (Typ): 20V (Max); Part Number: D20V0L1B2WS-7; Applications: General Purpose; ComponentLink1Description: Datasheet; ComponentLink1URL: https://www.diodes.com/assets/Datasheets/D20V0L1B2WS.pdf; ComponentLink2Description: DigiKey Link; ComponentLink2URL: http://digikey.com/product-detail/en/diodes-incorporated/D20V0L1B2WS-7/D20V0L1B2WS-7DICT-ND/4251587; LastUpdated: 9/2/2020 1:28:29 AM; Lifecycle Status: Active; Minimum Order: 1; Mounting Type: Surface Mount; Operating Temperature: -65°C ~ 150°C (TJ); Package / Case: SC-76, SOD-323; Packaging: TapeAndReel; PartId: 9932; Part Status: Active; Price: 0.08; Series: -; Supplier 1: DigiKey; Supplier Part Number 1: D20V0L1B2WS-7DICT-ND; Supplier Device Package: SOD-323; Voltage - Clamping (Max) @ Ipp: 30V
footprint SOD323
pins: 1, 2

## D22V0S1U2WS-7
designator D?
TVS DIODE 22V 37V SOD323; Manufacturer: Diodes Incorporated; Capacitance @ Frequency: 220pF @ 1MHz; Current - Peak Pulse (10/1000µs): 30A (8/20µs); Power Line Protection: No; Power - Peak Pulse: 1000W (1kW); Type: Zener; Unidirectional Channels: 1; Voltage - Breakdown (Min): 24V; Voltage - Reverse Standoff (Typ): 22V (Max); Part Number: D22V0S1U2WS-7; Applications: General Purpose; ComponentLink1Description: Datasheet; ComponentLink1URL: https://www.diodes.com/assets/Datasheets/D22V0S1U2WS.pdf; ComponentLink2Description: DigiKey Link; ComponentLink2URL: http://digikey.com/product-detail/en/diodes-incorporated/D22V0S1U2WS-7/D22V0S1U2WS-7DICT-ND/6010161; LastUpdated: 9/2/2020 1:28:27 AM; Lifecycle Status: Active; Minimum Order: 1; Mounting Type: Surface Mount; Operating Temperature: -55°C ~ 125°C (TJ); Package / Case: SC-76, SOD-323; Packaging: CutTape; PartId: 9906; Part Status: Active; Price: 0.36; Series: -; Supplier 1: DigiKey; Supplier Part Number 1: D22V0S1U2WS-7DICT-ND; Supplier Device Package: SOD-323; Voltage - Clamping (Max) @ Ipp: 37V
footprint SOD323
pins: 1, 2

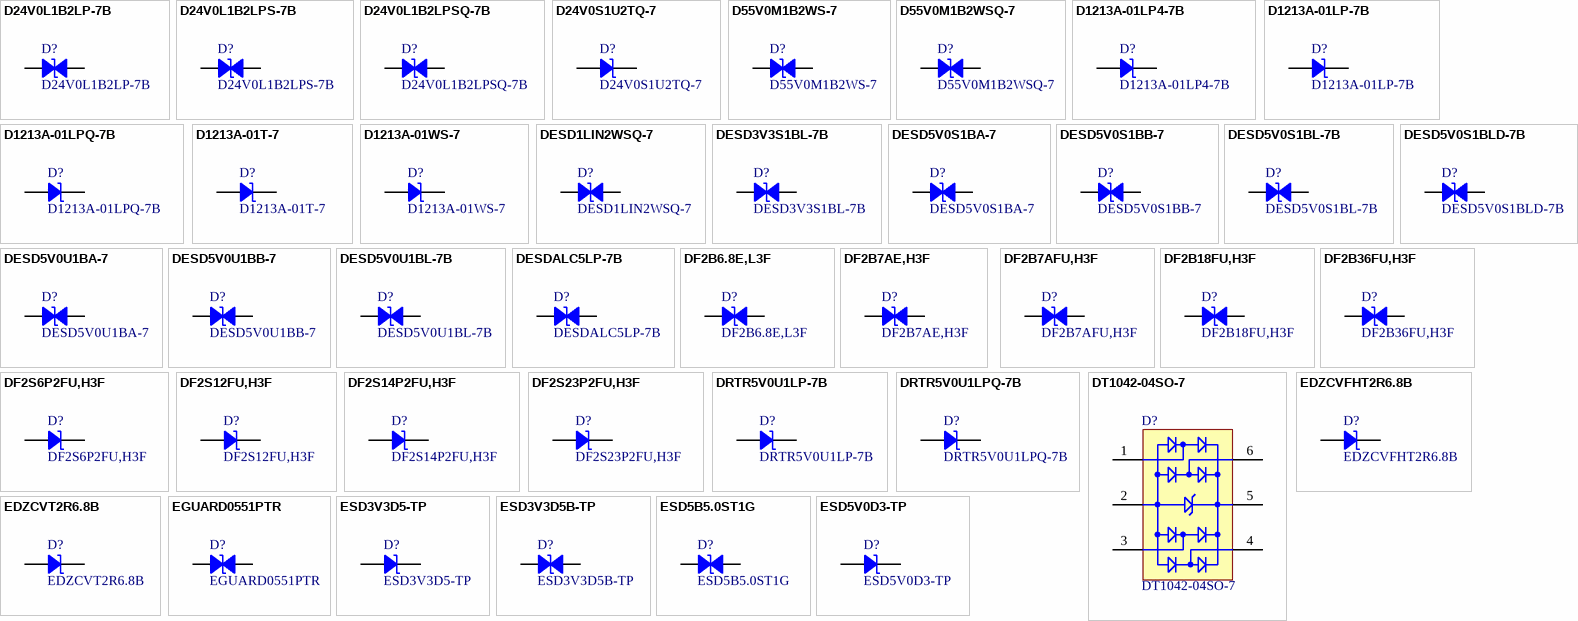
[diagram p23: symbols D24V0L1B2LP-7B to ESD5V0D3-TP]

## D24V0L1B2LP-7B
designator D?
TVS DIODE 24V 46V DFN1006-2; Manufacturer: Diodes Incorporated; Bidirectional Channels: 1; Capacitance @ Frequency: 6pF @ 1MHz; Current - Peak Pulse (10/1000µs): 2A (8/20µs); Power Line Protection: No; Power - Peak Pulse: 90W; Type: Zener; Voltage - Breakdown (Min): 26V; Voltage - Reverse Standoff (Typ): 24V (Max); Part Number: D24V0L1B2LP-7B; Applications: Automotive; ComponentLink1Description: Datasheet; ComponentLink1URL: https://www.diodes.com/assets/Datasheets/D24V0L1B2LP.pdf; ComponentLink2Description: DigiKey Link; ComponentLink2URL: http://digikey.com/product-detail/en/diodes-incorporated/D24V0L1B2LP-7B/D24V0L1B2LP-7BDICT-ND/6052572; Device Package: 0402 (1006 Metric); LastUpdated: 9/2/2020 1:28:49 AM; Lifecycle Status: Active; Minimum Order: 1; Mounting Type: Surface Mount; Operating Temperature: -65°C ~ 150°C (TJ); Package / Case: 0402 (1006 Metric); Packaging: TapeAndReel; PartId: 10465; Part Status: Active; Price: 0.06; Series: Automotive, AEC-Q101; Supplier 1: DigiKey; Supplier Part Number 1: D24V0L1B2LP-7BDICT-ND; Supplier Device Package: X1-DFN1006-2; Voltage - Clamping (Max) @ Ipp: 46V
footprint 0402
pins: 1, 2

## D24V0L1B2LPS-7B
designator D?
TVS DIODE 24V 46V DFN1006-2; Manufacturer: Diodes Incorporated; Bidirectional Channels: 1; Capacitance @ Frequency: 6pF @ 1MHz; Current - Peak Pulse (10/1000µs): 2A (8/20µs); Power Line Protection: No; Power - Peak Pulse: 90W; Type: Zener; Voltage - Breakdown (Min): 26V; Voltage - Reverse Standoff (Typ): 24V (Max); Part Number: D24V0L1B2LPS-7B; Applications: Automotive; ComponentLink1Description: Datasheet; ComponentLink1URL: https://www.diodes.com/assets/Datasheets/D24V0L1B2LPS.pdf; ComponentLink2Description: DigiKey Link; ComponentLink2URL: http://digikey.com/product-detail/en/diodes-incorporated/D24V0L1B2LPS-7B/D24V0L1B2LPS-7BDICT-ND/4747623; Device Package: 0402 (1006 Metric); LastUpdated: 9/2/2020 1:28:49 AM; Lifecycle Status: Active; Minimum Order: 1; Mounting Type: Surface Mount; Operating Temperature: -65°C ~ 150°C (TJ); Package / Case: 0402 (1006 Metric); Packaging: TapeAndReel; PartId: 10444; Part Status: Active; Price: 0.08; Series: Automotive, AEC-Q101; Supplier 1: DigiKey; Supplier Part Number 1: D24V0L1B2LPS-7BDICT-ND; Supplier Device Package: X1-DFN1006-2; Voltage - Clamping (Max) @ Ipp: 46V
footprint 0402
pins: 1, 2

## D24V0L1B2LPSQ-7B
designator D?
TVS DIODE 24V 46V DFN1006-2; Manufacturer: Diodes Incorporated; Bidirectional Channels: 1; Capacitance @ Frequency: 6pF @ 1MHz; Current - Peak Pulse (10/1000µs): 2A (8/20µs); Power Line Protection: No; Power - Peak Pulse: 90W; Type: Zener; Voltage - Breakdown (Min): 26V; Voltage - Reverse Standoff (Typ): 24V (Max); Part Number: D24V0L1B2LPSQ-7B; Applications: Automotive; ComponentLink1Description: Datasheet; ComponentLink1URL: https://www.diodes.com/assets/Datasheets/D24V0L1B2LPS.pdf; ComponentLink2Description: DigiKey Link; ComponentLink2URL: http://digikey.com/product-detail/en/diodes-incorporated/D24V0L1B2LPSQ-7B/D24V0L1B2LPSQ-7BDICT-ND/4810986; Device Package: 0402 (1006 Metric); LastUpdated: 9/2/2020 1:28:49 AM; Lifecycle Status: Active; Minimum Order: 1; Mounting Type: Surface Mount; Operating Temperature: -65°C ~ 150°C (TJ); Package / Case: 0402 (1006 Metric); Packaging: TapeAndReel; PartId: 10491; Part Status: Active; Price: 0.07; Series: Automotive, AEC-Q101; Supplier 1: DigiKey; Supplier Part Number 1: D24V0L1B2LPSQ-7BDICT-ND; Supplier Device Package: X1-DFN1006-2; Voltage - Clamping (Max) @ Ipp: 46V
footprint 0402
pins: 1, 2

## D24V0S1U2TQ-7
designator D?
GEN PROTECT PP SOD523; Manufacturer: Diodes Incorporated; Capacitance @ Frequency: 35pF @ 1MHz; Current - Peak Pulse (10/1000µs): 6A (8/20µs); Power Line Protection: No; Power - Peak Pulse: 360W; Type: Zener; Unidirectional Channels: 1; Voltage - Breakdown (Min): 27V; Voltage - Clamping (Max) @ Ipp: 36V; Voltage - Reverse Standoff (Typ): 24V (Max); Part Number: D24V0S1U2TQ-7; Applications: Automotive; ComponentLink1Description: Datasheet; ComponentLink1URL: https://www.diodes.com/assets/Datasheets/D24V0S1U2TQ.pdf; ComponentLink2Description: DigiKey Link; ComponentLink2URL: http://digikey.com/product-detail/en/diodes-incorporated/D24V0S1U2TQ-7/31-D24V0S1U2TQ-7CT-ND/10674221; LastUpdated: 9/2/2020 1:28:23 AM; Lifecycle Status: Active; Minimum Order: 1; Mounting Type: Surface Mount; Operating Temperature: -65°C ~ 150°C (TJ); Package / Case: SC-79, SOD-523; Packaging: TapeAndReel; PartId: 9718; Part Status: Active; Price: 0.06; Series: Automotive, AEC-Q101; Supplier 1: DigiKey; Supplier Part Number 1: 31-D24V0S1U2TQ-7CT-ND; Supplier Device Package: SOD-523
footprint SOD523F
pins: 1, 2

## D55V0M1B2WS-7
designator D?
TVS DIODE 55VWM 100VC; Manufacturer: Diodes Incorporated; Bidirectional Channels: 1; Capacitance @ Frequency: 14pF @ 1MHz; Current - Peak Pulse (10/1000µs): 2A (8/20µs); Power Line Protection: No; Power - Peak Pulse: 200W; Type: Zener; Voltage - Breakdown (Min): 57V; Voltage - Clamping (Max) @ Ipp: 100V; Voltage - Reverse Standoff (Typ): 55V (Max); Part Number: D55V0M1B2WS-7; Applications: General Purpose; ComponentLink1Description: Datasheet; ComponentLink1URL: https://www.diodes.com/assets/Datasheets/D55V0M1B2WS.pdf; ComponentLink2Description: DigiKey Link; ComponentLink2URL: http://digikey.com/product-detail/en/diodes-incorporated/D55V0M1B2WS-7/D55V0M1B2WS-7DICT-ND/8545864; LastUpdated: 9/2/2020 1:28:29 AM; Lifecycle Status: Active; Minimum Order: 1; Mounting Type: Surface Mount; Operating Temperature: -65°C ~ 150°C (TJ); Package / Case: SC-76, SOD-323; Packaging: TapeAndReel; PartId: 9930; Part Status: Active; Price: 0.08; Series: -; Supplier 1: DigiKey; Supplier Part Number 1: D55V0M1B2WS-7DICT-ND; Supplier Device Package: SOD-323
footprint SOD323
pins: 1, 2